# Altium footprint library PCB - SWITCHES - CAS-120B1.PcbLib: 1 footprints
Each footprint in its own frame and in the unit in brackets; x right, y up, seen from the top. Pads: shape width x height; smd on the part's side, far side on the other; paste and mask are expansions set on the pad; w line width, h text height; cw(c..) or ccw(c..) is an arc to the next point about the centre after c.
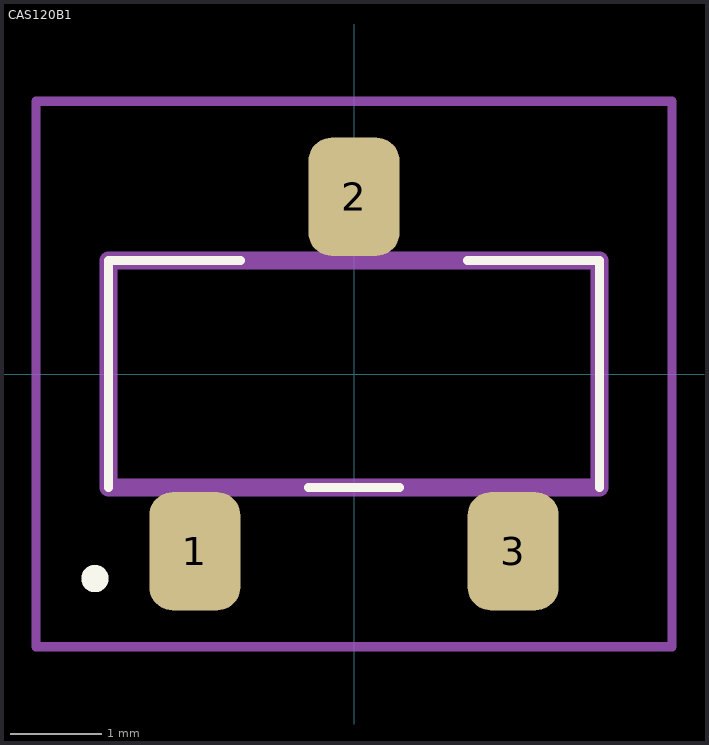
[diagram p0: the footprint, top view; thin cyan lines are the x and y axes]

## CAS120B1 [mm]
pads (3):
  rrect50% 1x1.3 smd: 1(-1.75,-1.95) 2(0,1.95) 3(1.75,-1.95)
Top Overlay:
  lines w0.1: -2.7,1.25 -2.7,-1.25 -2.7,1.25 ; -2.7,1.25 -1.25,1.25 -2.7,1.25 ; 2.7,1.25 2.7,-1.25 2.7,1.25 ; 2.7,1.25 1.25,1.25 2.7,1.25 ; -0.5,-1.25 0.5,-1.25 -0.5,-1.25
  lines w0.2: -2.9,-2.25 ccw(c-2.85,-2.25) -2.8,-2.25 ; -2.9,-2.25 cw(c-2.85,-2.25) -2.8,-2.25 ; -2.9,-2.25 ccw(c-2.85,-2.25) -2.8,-2.25
Top Assembly:
  lines w0.2: -2.7,-1.25 -2.7,1.25 2.7,1.25 2.7,-1.25 -2.7,-1.25
Top Courtyard:
  lines w0.1: -3.5,-3 -3.5,3 3.5,3 3.5,-3 -3.5,-3
Top Designator:
  text ".Designator" at -1.778,-0.683 h1
3D body "CAS-120B1.stp": height 2.5, standoff 0, extent -2.708,-2.037 2.692,2.163